# EAGLE library part 13_POS_XH_DEV (library Blizzard_Library)
13 Pos XH JST
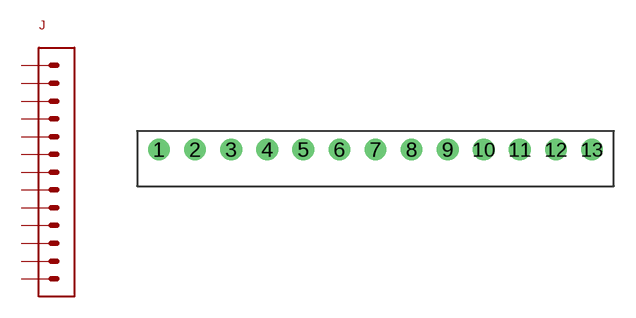
[diagram p18: symbol with the pads of 13_POS_XH_PKG; footprint 13_POS_XH_PKG]

Designator prefix J

## 13_POS_XH_DEV  [13_POS_XH_PKG]
1  P$1
2  P$2
3  P$3
4  P$4
5  P$5
6  P$6
7  P$7
8  P$8
9  P$9
10  P$10
11  P$11
12  P$12
13  P$13

## Footprint 13_POS_XH_PKG (pad centres in mm)
13 pos 2.5mm pitch
drill 1: 1 -15,0; 2 -12.5,0; 3 -10,0; 4 -7.5,0; 5 -5,0; 6 -2.5,0; 7 0,0; 8 2.5,0; 9 5,0; 10 7.5,0; 11 10,0; 12 12.5,0; 13 15,0